# EAGLE library part 74HC04 (library 6502-shield)
74HC04 Hex Inverter
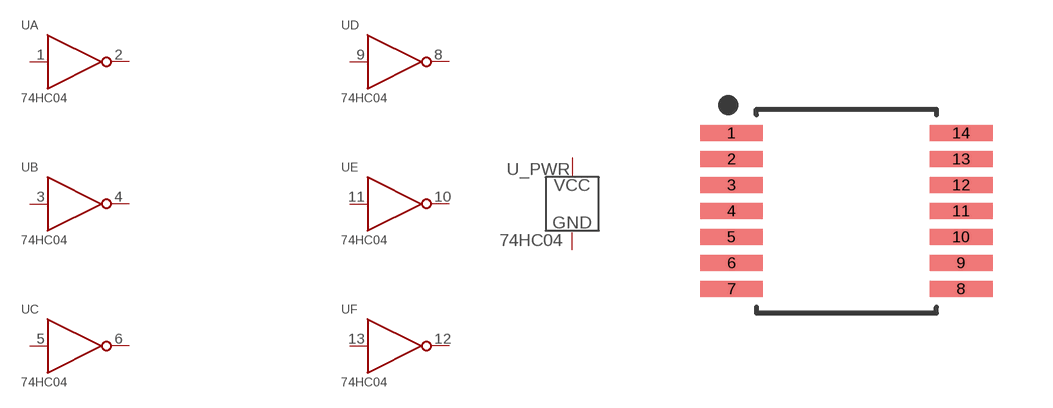
[diagram p9: symbol with the pads of SOP65P640X110-14N; footprint SOP65P640X110-14N]

Designator prefix U; gates A=74HC04 B=74HC04 C=74HC04 D=74HC04 E=74HC04 F=74HC04 _PWR=IC-PWR

## 74HC04TSSOP-14  [SOP65P640X110-14N]
1  A:A
2  A:Y
3  B:A
4  B:Y
5  C:A
6  C:Y
7  _PWR:GND
8  D:Y
9  D:A
10  E:Y
11  E:A
12  F:Y
13  F:A
14  _PWR:VCC

## Footprint SOP65P640X110-14N (pad centres in mm)
14-SOP, 0.65 mm pitch, 6.40 mm span, 5.00 X 4.40 X 1.10 mm body 14-pin SOP package with 0.65 mm pitch, 6.40 mm span with body size 5.00 X 4.40 X 1.10 mm
smd 1.572 x 0.407: 1 -2.872,1.95; 2 -2.872,1.3; 3 -2.872,0.65; 4 -2.872,0; 5 -2.872,-0.65; 6 -2.872,-1.3; 7 -2.872,-1.95; 8 2.872,-1.95; 9 2.872,-1.3; 10 2.872,-0.65; 11 2.872,0; 12 2.872,0.65; 13 2.872,1.3; 14 2.872,1.95